# Altium schematic symbol library Rotary Encoder GOST.SchLib: 2 symbols
Pins are listed as number, name and electrical type; pins without a type are passive.

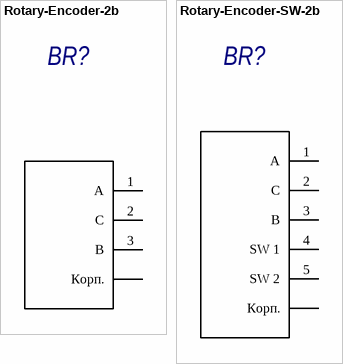
[diagram p0: symbols Rotary-Encoder-2b to Rotary-Encoder-SW-2b]

## Rotary-Encoder-2b
designator BR?
Type: Энкодер инкрементный; Published: 30.10.2015; Publisher: Andrew Danich
pins: 0 Корп., 1 A, 2 C, 3 B

## Rotary-Encoder-SW-2b
designator BR?
Type: Энкодер инкрементный; Published: 30.10.2015; Publisher: Andrew Danich
pins: 0 Корп., 1 A, 2 C, 3 B, 4 SW 1, 5 SW 2